# Altium schematic symbol library uplinkSMDConnector.SchLib: 1 symbol
Pins are listed as number, name and electrical type; pins without a type are passive.

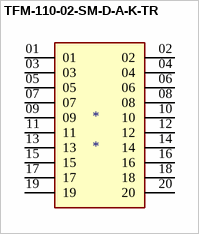
[diagram p0: symbol TFM-110-02-SM-D-A-K-TR]

## TFM-110-02-SM-D-A-K-TR
designator *
pins: 01, 02, 03, 04, 05, 06, 07, 08, 09, 10, 11, 12, 13, 14, 15, 16, 17, 18, 19, 20